# Altium footprint library ES_Pcb.PcbLib: 383 footprints (part 9 of 24)
Each footprint in its own frame and in the unit in brackets; x right, y up, seen from the top. Pads: shape width x height; smd on the part's side, far side on the other; paste and mask are expansions set on the pad; w line width, h text height; cw(c..) or ccw(c..) is an arc to the next point about the centre after c.
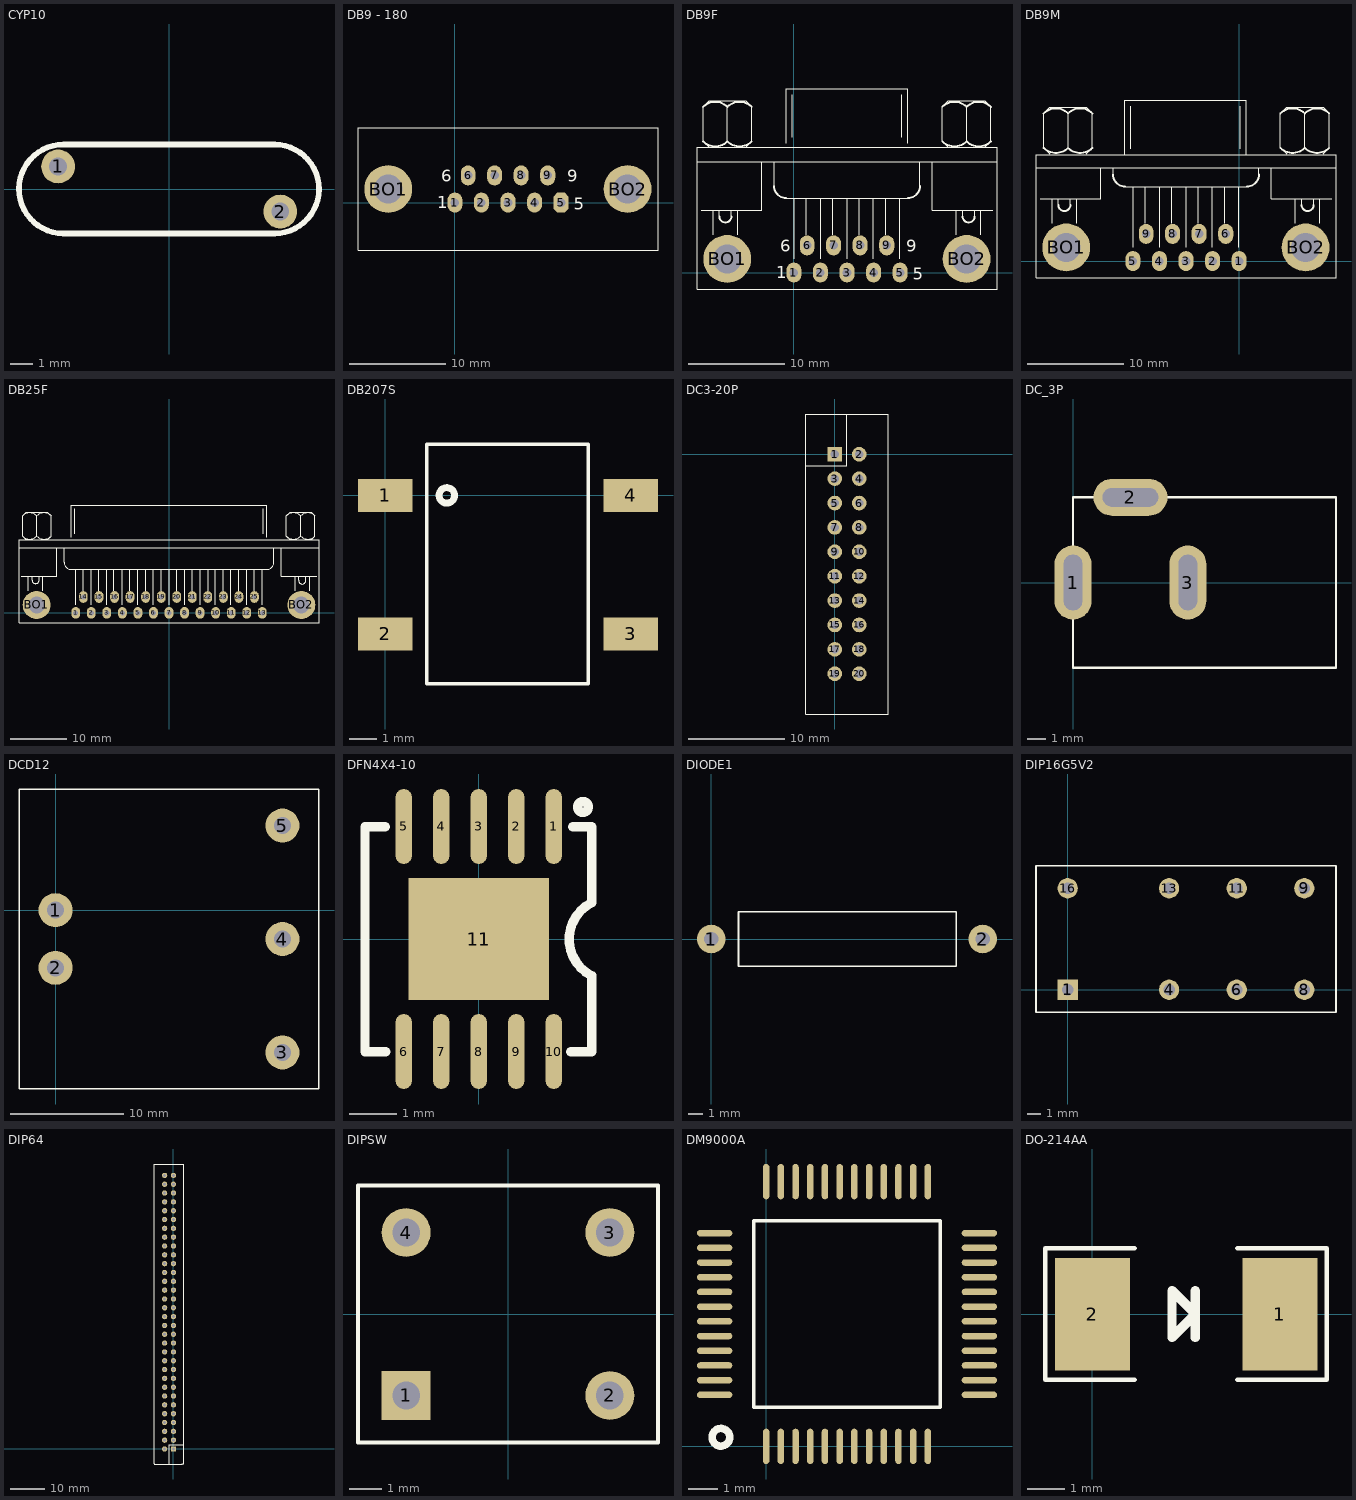
[diagram p8: the footprints below, top view; thin cyan lines are the x and y axes]

## CYP10 [mil]
pads (2):
  round 60 hole 31.5: 1(-196.85,40) 2(196.85,-40)
Top Overlay:
  lines w10: -187.58,-78.74 cw(c-187.42,0) -186.85,78.74 186.85,78.74 cw(c186.69,0) 186.12,-78.74 ; -186.85,-78.74 186.85,-78.74

## DB9 - 180 [mil]
pads (11):
  oval 62x82 hole 35: 1(0,0) 2(109.17,0) 3(218.33,0) 4(327.5,0) 7(163.33,111.67) 8(272.5,111.67) 9(381.67,111.67)
  oct 62x82 hole 35: 5(436.67,0)
  oval 60x82 hole 35: 6(54.17,111.67)
  round 196.67 hole 118.33: BO1(-274.17,55.83) BO2(710,55.83)
Top Overlay:
  lines w5: -398.33,-196.14 -398.33,307.8 835,307.8 835,-196.14 -398.33,-196.14
  text "9" at 462.92,85.83 h50
  text "5" at 487.92,-29.17 h50
  text "1" at -72.08,-24.17 h50
  text "6" at -57.08,85.83 h50

## DB9F [mil]
pads (11):
  oval 62x82 hole 35: 1(0,0) 2(109.17,0) 3(218.33,0) 4(327.5,0) 5(436.67,0) 7(163.33,111.67) 8(272.5,111.67) 9(381.67,111.67)
  oval 60x82 hole 35: 6(54.17,111.67)
  round 196.67 hole 118.33: BO1(-274.17,55.83) BO2(710,55.83)
Top Overlay:
  lines w5: -398.33,455.83 835,455.83 ; -381.67,255.83 -131.67,255.83 -131.67,455.83 ; -348.33,514.17 -373.33,539.17 -373.33,680.83 -348.33,705.83 -198.33,705.83 -173.33,680.83 -173.33,539.17 -198.33,514.17 ; -331.67,155.83 -331.67,255.83 ; -306.67,230.83 -306.67,255.83 ; -273.33,539.17 -273.33,680.83 ; -256.67,230.83 -256.67,255.83 ; -231.67,155.83 -231.67,255.83 ; -81.67,355.83 -81.67,455.83 ; -31.67,305.83 468.33,305.83 ; -31.67,530.83 -31.67,755.83 468.33,755.83 468.33,530.83 ; -6.67,555.83 -6.67,730.83 ; 1.67,55.83 1.67,305.83 ; 51.67,155.83 51.67,305.83 ; 110,55.83 110,305.83 ; 160,155.83 160,305.83 ; 218.33,55.83 218.33,305.83 ; 268.33,155.83 268.33,305.83 ; 326.67,55.83 326.67,305.83 ; 376.67,155.83 376.67,305.83 ; 435,55.83 435,305.83 ; 443.33,555.83 443.33,730.83 ; 518.33,355.83 518.33,455.83 ; 568.33,455.83 568.33,255.83 818.33,255.83 ; 635,514.17 610,539.17 610,680.83 635,705.83 785,705.83 810,680.83 810,539.17 785,514.17 ; 668.33,155.83 668.33,255.83 ; 693.33,230.83 693.33,255.83 ; 710,539.17 710,680.83 ; 743.33,230.83 743.33,255.83 ; 768.33,155.83 768.33,255.83 ; -398.33,-69.17 -398.33,514.17 835,514.17 835,-69.17 -398.33,-69.17
  lines w8: -373.42,539.08 ccw(c-323.33,589.17) -273.25,539.08 ; -373.42,680.92 cw(c-323.33,630.83) -273.25,680.92 ; -306.67,230.83 ccw(c-281.67,230.83) -256.67,230.83 ; -273.42,539.08 ccw(c-223.33,589.17) -173.25,539.08 ; -273.42,680.92 cw(c-223.33,630.83) -173.25,680.92 ; -81.67,355.83 ccw(c-31.67,355.83) -31.67,305.83 ; 468.33,305.83 ccw(c468.33,355.83) 518.33,355.83 ; 609.91,539.08 ccw(c660,589.17) 710.09,539.08 ; 609.91,680.92 cw(c660,630.83) 710.09,680.92 ; 693.33,230.83 ccw(c718.33,230.83) 743.33,230.83 ; 709.91,539.08 ccw(c760,589.17) 810.09,539.08 ; 709.91,680.92 cw(c760,630.83) 810.09,680.92
  text "9" at 462.92,85.83 h50
  text "5" at 487.92,-29.17 h50
  text "1" at -72.08,-24.17 h50
  text "6" at -57.08,85.83 h50

## DB9M [mil]
pads (11):
  oval 62x82 hole 35: 1(0,0) 2(-109.17,0) 3(-218.33,0) 4(-327.5,0) 5(-436.67,0) 6(-55,111.67) 7(-164.17,111.67) 8(-273.33,111.67)
  oval 60x82 hole 35: 9(-382.5,111.67)
  round 196.67 hole 118.33: BO1(-710.83,55.83) BO2(273.33,55.83)
Top Overlay:
  lines w5: -835,384.3 398.33,384.3 ; -818.33,255.83 -568.33,255.83 -568.33,384.3 ; -778.28,440.1 -803.28,465.1 -803.28,606.77 -778.28,631.77 -628.28,631.77 -603.28,606.77 -603.28,465.1 -628.28,440.1 ; -768.33,155.83 -768.33,255.83 ; -743.33,230.83 -743.33,255.83 ; -703.28,465.1 -703.28,606.77 ; -693.33,230.83 -693.33,255.83 ; -668.33,155.83 -668.33,255.83 ; -518.33,355.83 -518.33,384.3 ; -471.08,436.47 -471.08,661.47 28.92,661.47 28.92,436.47 ; -468.33,305.83 31.67,305.83 ; -446.08,461.47 -446.08,636.47 ; -435,55.83 -435,305.83 ; -385,155.83 -385,305.83 ; -326.67,55.83 -326.67,305.83 ; -276.67,155.83 -276.67,305.83 ; -218.33,55.83 -218.33,305.83 ; -168.33,155.83 -168.33,305.83 ; -110,55.83 -110,305.83 ; -60,155.83 -60,305.83 ; -1.67,55.83 -1.67,305.83 ; 3.92,461.47 3.92,636.47 ; 81.67,355.83 81.67,383.86 ; 131.67,383.86 131.67,255.83 381.67,255.83 ; 194.97,440.1 169.97,465.1 169.97,606.77 194.97,631.77 344.97,631.77 369.97,606.77 369.97,465.1 344.97,440.1 ; 231.67,155.83 231.67,255.83 ; 256.67,230.83 256.67,255.83 ; 269.97,465.1 269.97,606.77 ; 306.67,230.83 306.67,255.83 ; 331.67,155.83 331.67,255.83 ; -835,-69.17 -835,436.47 398.33,436.47 398.33,-69.17 -835,-69.17
  lines w8: -803.37,465.01 ccw(c-753.28,515.1) -703.19,465.01 ; -803.37,606.85 cw(c-753.28,556.77) -703.19,606.85 ; -743.33,230.83 ccw(c-718.33,230.83) -693.33,230.83 ; -703.37,465.01 ccw(c-653.28,515.1) -603.19,465.01 ; -703.37,606.85 cw(c-653.28,556.77) -603.19,606.85 ; -518.33,355.83 ccw(c-468.33,355.83) -468.33,305.83 ; 31.67,305.83 ccw(c31.67,355.83) 81.67,355.83 ; 169.89,465.01 ccw(c219.97,515.1) 270.06,465.01 ; 169.89,606.85 cw(c219.97,556.77) 270.06,606.85 ; 256.67,230.83 ccw(c281.67,230.83) 306.67,230.83 ; 269.89,465.01 ccw(c319.97,515.1) 370.06,465.01 ; 269.89,606.85 cw(c319.97,556.77) 370.06,606.85

## DB25F [mil]
pads (27):
  oval 62x82 hole 35: 1(-655,0) 2(-545.83,0) 3(-436.67,0) 4(-327.5,0) 5(-218.33,0) 6(-109.17,0) 7(0,0) 8(109.17,0) 9(218.33,0) 10(327.5,0) 11(436.67,0) 12(545.84,0) 13(655,0) 15(-491.67,111.67) 16(-382.5,111.67) 17(-273.33,111.67) 18(-164.17,111.67) 19(-55,111.67) 20(54.17,111.67) 21(163.33,111.67) 22(272.5,111.67) 23(381.67,111.67) 24(490.83,111.67) 25(600,111.67)
  oval 60x82 hole 35: 14(-600.83,111.67)
  round 196.67 hole 118.33: BO1(-929.17,55.83) BO2(929.17,55.83)
Top Overlay:
  lines w5: -1053.33,455.83 1053.33,455.83 ; -1036.67,255.83 -786.67,255.83 -786.67,455.83 ; -1003.33,514.17 -1028.33,539.17 -1028.33,680.83 -1003.33,705.83 -853.33,705.83 -828.33,680.83 -828.33,539.17 -853.33,514.17 ; -986.67,155.83 -986.67,255.83 ; -961.67,230.83 -961.67,255.83 ; -928.33,539.17 -928.33,680.83 ; -911.67,230.83 -911.67,255.83 ; -886.67,155.83 -886.67,255.83 ; -736.67,355.83 -736.67,455.83 ; -686.67,305.83 686.67,305.83 ; -686.67,530.83 -686.67,755.83 686.67,755.83 686.67,530.83 ; -661.67,555.83 -661.67,730.83 ; -653.33,55.83 -653.33,305.83 ; -603.33,155.83 -603.33,305.83 ; -545,55.83 -545,305.83 ; -495,155.83 -495,305.83 ; -436.67,55.83 -436.67,305.83 ; -386.67,155.83 -386.67,305.83 ; -328.33,55.83 -328.33,305.83 ; -275,155 -275,305 ; -220,55.83 -220,305.83 ; -164.17,155.83 -164.17,305.83 ; -110,55.83 -110,305.83 ; -55,155.83 -55,305.83 ; 0,55.83 0,305.83 ; 55,155 55,305 ; 110,55.83 110,305.83 ; 165,155.83 165,305.83 ; 220,55.83 220,305.83 ; 275,155.83 275,305.83 ; 325,55.83 325,305.83 ; 380,155.83 380,305.83 ; 435,55.83 435,305.83 ; 490,155 490,305 ; 545,55.83 545,305.83 ; 600,155 600,305 ; 655,55.83 655,305.83 ; 661.67,555.83 661.67,730.83 ; 736.67,355.83 736.67,455.83 ; 786.67,455.83 786.67,255.83 1036.67,255.83 ; 850,514.17 825,539.17 825,680.83 850,705.83 1000,705.83 1025,680.83 1025,539.17 1000,514.17 ; 886.67,155.83 886.67,255.83 ; 910,227.5 910,252.5 ; 925,539.17 925,680.83 ; 960,227.5 960,252.5 ; 986.67,155.83 986.67,255.83 ; -1053.33,-69.17 1053.33,-69.17 1053.33,514.17 -1053.33,514.17 -1053.33,-69.17
  lines w8: -1028.42,539.08 ccw(c-978.33,589.17) -928.25,539.08 ; -1028.42,680.92 cw(c-978.33,630.83) -928.25,680.92 ; -961.67,230.83 ccw(c-936.67,230.83) -911.67,230.83 ; -928.42,539.08 ccw(c-878.33,589.17) -828.25,539.08 ; -928.42,680.92 cw(c-878.33,630.83) -828.25,680.92 ; -736.67,355.83 ccw(c-686.67,355.83) -686.67,305.83 ; 686.67,305.83 ccw(c686.67,355.83) 736.67,355.83 ; 824.91,539.08 ccw(c875,589.17) 925.09,539.08 ; 824.91,680.92 cw(c875,630.83) 925.09,680.92 ; 910,227.5 ccw(c935,227.5) 960,227.5 ; 924.91,539.08 ccw(c975,589.17) 1025.09,539.08 ; 924.91,680.92 cw(c975,630.83) 1025.09,680.92

## DB207S [mm]
pads (4):
  rect 2x1.2 smd: 1(0,0) 2(0,-5.08) 3(9,-5.08) 4(9,0)
Top Overlay:
  circle w0.254: c2.256,0 r0.284
  lines w0.127: 1.524,-6.909 1.524,1.88 7.442,1.88 7.442,-6.909 1.524,-6.909

## DC3-20P [mil]
pads (20):
  rect 60x60 hole 34: 1(0,0)
  round 60 hole 34: 2(100,0) 3(0,-100) 4(100,-100) 5(0,-200) 6(100,-200) 7(0,-300) 8(100,-300) 9(0,-400) 10(100,-400) 11(0,-500) 12(100,-500) 13(0,-600) 14(100,-600) 15(0,-700) 16(100,-700) 17(0,-800) 18(100,-800) 19(0,-900) 20(100,-900)
Top Overlay:
  lines w5: -120,-48 49,-48 49,163 ; -120,-1065 -120,165 220,165 220,-1065 -120,-1065

## DC_3P [mm]
pads (3):
  oval 2x4 hole 1 slot 3 at 90 deg: 1(0,0) 3(6.2,0)
  oval 4x2 hole 1 slot 3 at 0 deg: 2(3.1,4.6)
Top Overlay:
  lines w0.127: 14.2,-4.6 0,-4.6 0,4.6 14.2,4.6 ; 14.2,-4.572 14.2,4.572

## DCD12 [mm]
pads (5):
  round 3 hole 1.5: 1(0,0) 2(0,-5.08) 3(20,-12.54) 4(20,-2.54) 5(20,7.46)
Top Overlay:
  lines w0.127: -3.225,-15.765 -3.225,10.685 23.225,10.685 23.225,-15.765 -3.225,-15.765

## DFN4X4-10 [mm]
pads (11):
  oval 0.35x1.6 smd: 1(1.6,2.4) 2(0.8,2.4) 3(0,2.4) 4(-0.8,2.4) 5(-1.6,2.4) 6(-1.6,-2.4) 7(-0.8,-2.4) 8(0,-2.4) 9(0.8,-2.4) 10(1.6,-2.4)
  rect 3x2.6 smd: 11(0,0)
Top Overlay:
  circle w0.2: c2.223,2.817 r0.115
  lines w0.2: -1.99,2.391 -2.426,2.391 -2.426,-2.409 -1.987,-2.409 ; 1.965,-2.409 2.409,-2.409 2.409,-0.779 ; 2.008,2.397 2.409,2.397 2.409,0.772 ; 2.409,-0.785 cw(c2.802,-0.005) 2.409,0.775

## DIODE1 [mm]
pads (2):
  round 2 hole 1: 1(0,0) 2(19,0)
Top Overlay:
  lines w0.127: 1.905,-1.905 17.145,-1.905 17.145,1.905 1.905,1.905 1.905,-1.905

## DIP16G5V2 [mil]
pads (8):
  rect 60x60 hole 34: 1(0,0)
  round 60 hole 34: 4(300,0) 6(500,0) 8(700,0) 9(700,300) 11(500,300) 13(300,300) 16(0,300)
Top Overlay:
  lines w5: -93.7,-66.53 -93.7,366.54 793.7,366.54 793.7,-66.53 -93.7,-66.53

## DIP64 [mil]
pads (64):
  rect 60x60 hole 32: 1(0,0)
  round 60 hole 32: 2(-100,0) 3(0,100) 4(-100,100) 5(0,200) 6(-100,200) 7(0,300) 8(-100,300) 9(0,400) 10(-100,400) 11(0,500) 12(-100,500) 13(0,600) 14(-100,600) 15(0,700) 16(-100,700) 17(0,800) 18(-100,800) 19(0,900) 20(-100,900) 21(0,1000) 22(-100,1000) 23(0,1100) 24(-100,1100) 25(0,1200) 26(-100,1200) 27(0,1300) 28(-100,1300) 29(0,1400) 30(-100,1400) 31(0,1500) 32(-100,1500) 33(0,1600) 34(-100,1600) 35(0,1700) 36(-100,1700) 37(0,1800) 38(-100,1800) 39(0,1900) 40(-100,1900) 41(0,2000) 42(-100,2000) 43(0,2100) 44(-100,2100) 45(0,2200) 46(-100,2200) 47(0,2300) 48(-100,2300) 49(0,2400) 50(-100,2400) 51(0,2500) 52(-100,2500) 53(0,2600) 54(-100,2600) 55(0,2700) 56(-100,2700) 57(0,2800) 58(-100,2800) 59(0,2900) 60(-100,2900) 61(0,3000) 62(-100,3000) 63(0,3100) 64(-100,3100)
Top Overlay:
  lines w5: -217.48,3228.78 -217.87,3229.17 ; -200.39,3229.17 -217.87,3229.17 ; -200,3228.78 101.77,3228.94 113.58,3228.94 117.13,3225.39 ; -50,-167.52 -50,50 98.82,50 113.39,50 ; 117.13,3225 117.13,-50 117.13,-167.13 114.76,-169.49 100,-169.49 99.49,-170 83.07,-170 -61.65,-170 -198.11,-170 -217.8,-170 -217.87,-169.92 -217.87,-50 -217.87,3220.08 -217.87,3229.17

## DIPSW [mil]
pads (4):
  rect 60x60 hole 34: 1(-125,-100)
  round 60 hole 34: 2(125,-100) 3(125,100) 4(-125,100)
Top Overlay:
  lines w5: -184.06,-157.48 -184.06,157.48 184.06,157.48 184.06,-157.48 -184.06,-157.48

## DM9000A [mm]
pads (48):
  oval 0.22x1.2 smd: 1(0,0) 2(0.5,0) 3(1,0) 4(1.5,0) 5(2,0) 6(2.5,0) 7(3,0) 8(3.5,0) 9(4,0) 10(4.5,0) 11(5,0) 12(5.5,0) 25(5.5,9) 26(5,9) 27(4.5,9) 28(4,9) 29(3.5,9) 30(3,9) 31(2.5,9) 32(2,9) 33(1.5,9) 34(1,9) 35(0.5,9) 36(0,9)
  oval 1.2x0.22 smd: 13(7.25,1.75) 14(7.25,2.25) 15(7.25,2.75) 16(7.25,3.25) 17(7.25,3.75) 18(7.25,4.25) 19(7.25,4.75) 20(7.25,5.25) 21(7.25,5.75) 22(7.25,6.25) 23(7.25,6.75) 24(7.25,7.25) 37(-1.75,7.25) 38(-1.75,6.75) 39(-1.75,6.25) 40(-1.75,5.75) 41(-1.75,5.25) 42(-1.75,4.75) 43(-1.75,4.25) 44(-1.75,3.75) 45(-1.75,3.25) 46(-1.75,2.75) 47(-1.75,2.25) 48(-1.75,1.75)
Top Overlay:
  circle w0.254: c-1.538,0.309 r0.3
  lines w0.127: -0.425,1.325 -0.425,7.675 5.925,7.675 5.925,1.325 -0.425,1.325

## DO-214AA [mil]
pads (2):
  rect 80x120 smd: 1(200,0) 2(0,0)
Top Overlay:
  lines w5: 45,-70 -50,-70 -50,70 45,70 ; 155,-70 250,-70 250,70 155,70
  lines w10: 110,-25 110,25 ; 85,-25 110,0 85,25 85,-25